# Altium footprint library CONN IPL1-104-02-X-S.PcbLib: 1 footprints
Each footprint in its own frame and in the unit in brackets; x right, y up, seen from the top. Pads: shape width x height; smd on the part's side, far side on the other; paste and mask are expansions set on the pad; w line width, h text height; cw(c..) or ccw(c..) is an arc to the next point about the centre after c.
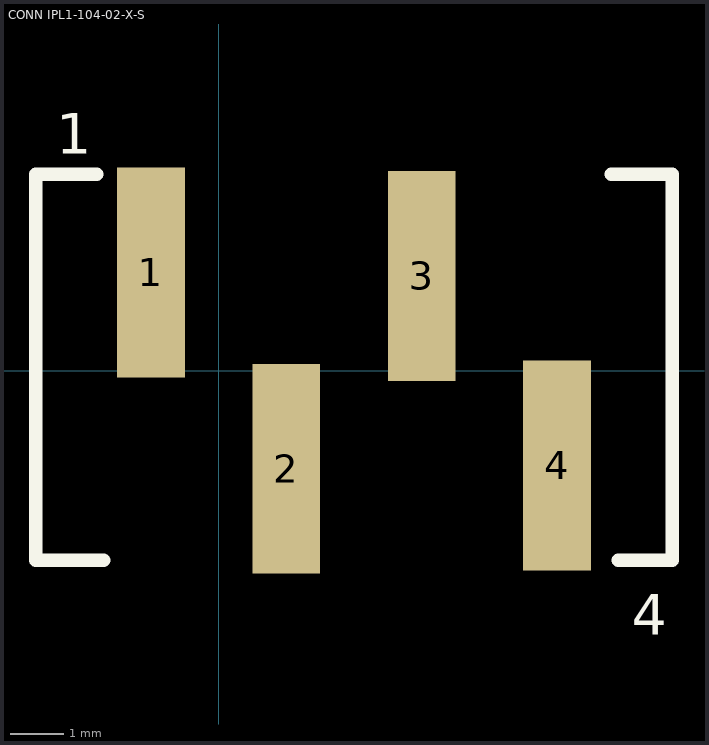
[diagram p0: the footprint, top view; thin cyan lines are the x and y axes]

## CONN IPL1-104-02-X-S [mil]
pads (4):
  rect 50x155 smd: 1(-50,72.5) 2(50,-72.5) 3(150,70) 4(250,-70)
Top Overlay:
  lines w10: -90,145 -135,145 -135,-140 -85,-140 ; 290,145 335,145 335,-62.5 335,-140 295,-140
  text "1" at -120,160 h30
  text "4" at 305,-195 h30
3D body: height 347, standoff 2, extent -130,-145 330,143.5